# EAGLE library part TCMD4000 (library MCE_CircuitosIntegrados)
Optoacopladores de salida de transistores Photodarlington Out Quad CTR >600%
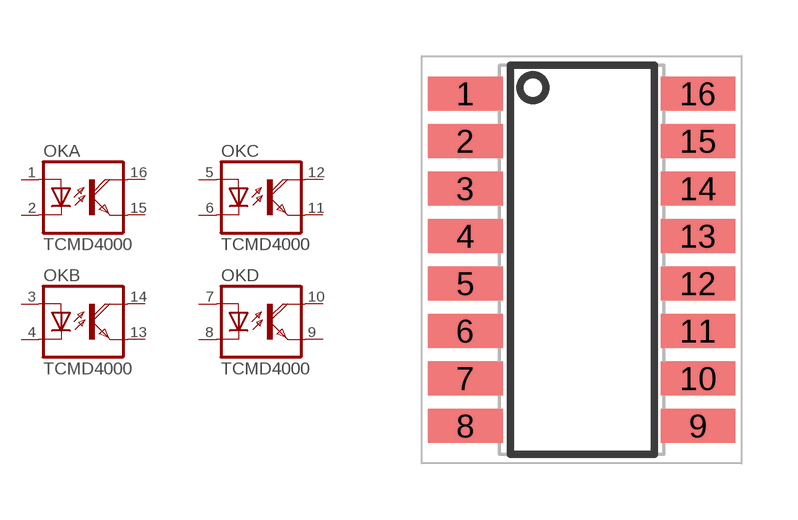
[diagram p16: symbol with the pads of SOP-16; footprint SOP-16]

Designator prefix OK; gates A=OK-D B=OK-D C=OK-D D=OK-D

## TCMD4000  [SOP-16]
1  A:A  pas
2  A:C  pas
3  B:A  pas
4  B:C  pas
5  C:A  pas
6  C:C  pas
7  D:A  pas
8  D:C  pas
9  D:EMI  pas
10  D:COL  pas
11  C:EMI  pas
12  C:COL  pas
13  B:EMI  pas
14  B:COL  pas
15  A:EMI  pas
16  A:COL  pas

## Footprint SOP-16 (pad centres in mm)
Half Pitch Mini-Flat Package (SOP-16)_1
smd 2 x 0.9: 1 -3.112,4.445; 2 -3.112,3.175; 3 -3.112,1.905; 4 -3.112,0.635; 5 -3.112,-0.635; 6 -3.112,-1.905; 7 -3.112,-3.175; 8 -3.112,-4.445; 9 3.112,-4.445; 10 3.112,-3.175; 11 3.112,-1.905; 12 3.112,-0.635; 13 3.112,0.635; 14 3.112,1.905; 15 3.112,3.175; 16 3.112,4.445